# Altium integrated library TI Data Converters Analog to Digital Converter.IntLib: 2198 symbols (part 85 of 164)
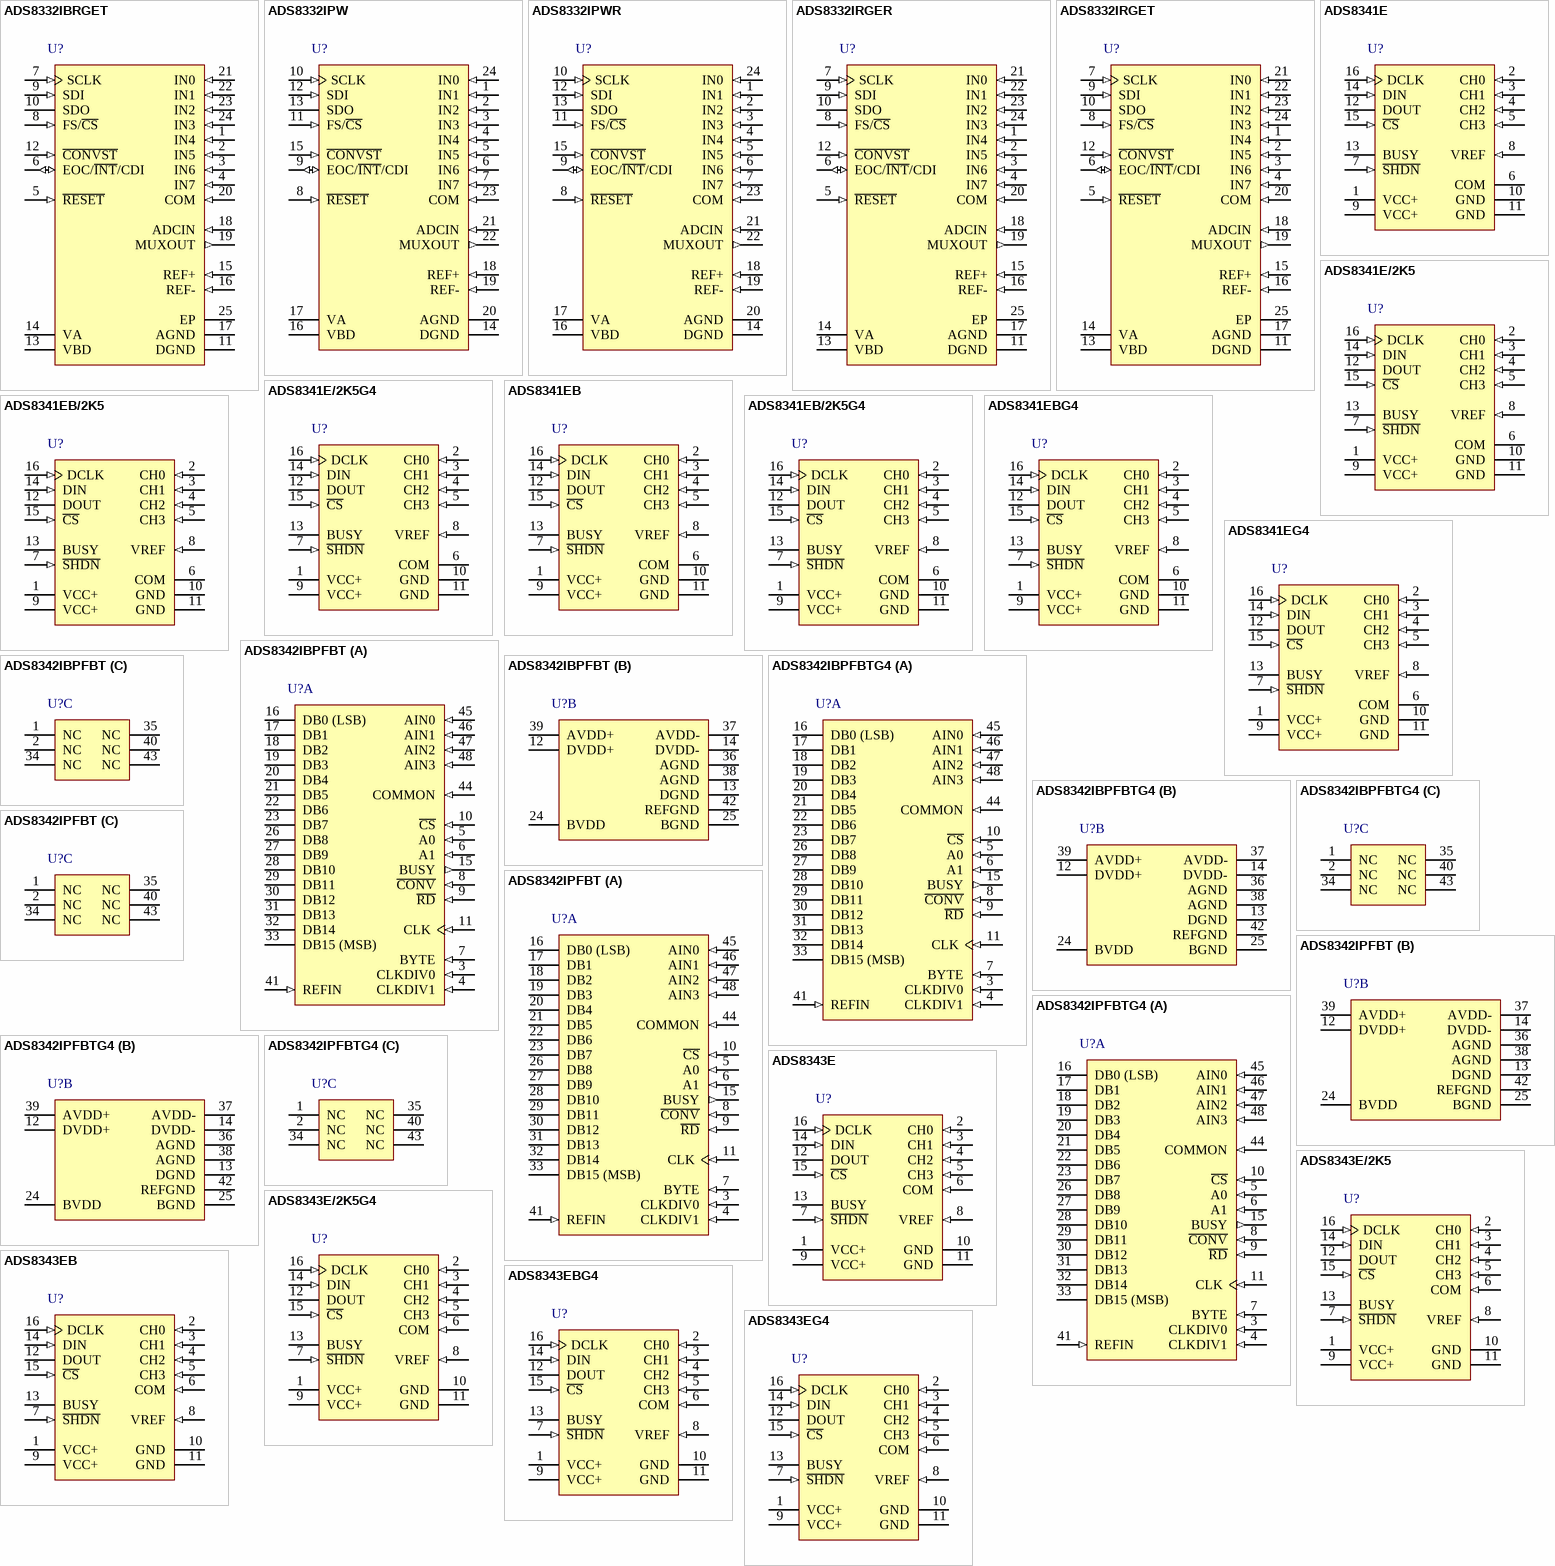
[diagram p210: symbols ADS8332IBRGET to ADS8343EG4]

## ADS8342IPFBT
designator U?
16-Bit 250 kSPS ADC Parallel Out, 4 True Bipolar Channels, -40 to 85 degC, 48-pin QFP (PFB48), Green (RoHS & no Sb/Br); Manufacturer: Texas Instruments; PartNumber: ADS8342IPFBT; # Input Channels: 4; Analog Voltage AV/DD(Max)(V): 5.25; Analog Voltage AV/DD(Min)(V): 4.75; Architecture: SAR; ENOB(Bits): 14; INL(Max)(+/-LSB): 6; Interface: Parallel CMOS; Resolution(Bits): 16; Sample Rate (max)(SPS): 250K; SFDR(dB): 92; SINAD(dB): 84.6; SNR(dB): 86; SubFamily: Precision ADC (<=10MSPS); DatasheetVersion: SBAS277; PackageVersion: 4073176/B, 10/1996; PackageReference: PFB48; PackageDescription: 48-Pin Plastic Flat Pack, Body 7 x 7 mm, Pitch 0.5 mm; Supplier 1: Digi-Key; Supplier Part Number 1: ADS7822PBG4-ND; Digital Supply(Max)(V): 5.25; Digital Supply(Min)(V): 4.75; Eco-Plan: Green (RoHS & no Sb/Br); Mounting Technology: Surface Mount; Code_JEDEC: MS-026; ComponentLink1Description: Manufacturer URL; ComponentLink1URL: http://www.ti.com/; ComponentLink2Description: Datasheet; ComponentLink2URL: http://www.ti.com/general/docs/lit/getliterature.tsp?genericPartNumber=ADS8342&fileType=pdf; ComponentLink3Description: Package Specification; ComponentLink3URL: http://www.ti.com/lit/ml/mtqf019a/mtqf019a.pdf
footprint TI-PFB48_N (QFP, 48-Leads, Body 7x7mm, Pitch 0.5mm, IPC Medium Density)
footprint TI-PFB48_L (QFP, 48-Leads, Body 7x7mm, Pitch 0.5mm, IPC High Density)
footprint TI-PFB48_M (QFP, 48-Leads, Body 7x7mm, Pitch 0.5mm, IPC Low Density)
part A pins: 3 CLKDIV0 (in) "Select clock divider ratio. Internally divides external clock (pin 11) by 1, 2, 4, or 8.", 4 CLKDIV1 (in) "Select clock divider ratio. Internally divides external clock (pin 11) by 1, 2, 4, or 8.", 5 A0 (in) "Address decode input, select analog input.", 6 A1 (in) "Address decode input, select analog input.", 7 BYTE (in) "Active high bus width is 8 bits. When BYTE is low, the bus width is 16 bits.", 8 ~{CONV} (in) "Convert start. When C\O\N\V\ switches from high to low, the device switches from sample mode to hold mode, independent of the external clock status. The address for the next conversion will be latched on low-to-high (See Datasheet)", 9 ~{RD} (in) "Active low read signal", 10 ~{CS} (in) "Active low chip select signal", 11 CLK (in) "System clock", 15 BUSY (out) "BUSY goes high during a conversion and returns low at the end when data is available for reading.", 16 DB0 (LSB) (hiz) "Output 3-state data bus. DB15 (MSB) to DB0 (LSB). Data lines are 3-state during conversion. R\D\ should be asserted only when the part is not converting.", 17 DB1 (hiz) "Output 3-state data bus. DB15 (MSB) to DB0 (LSB). Data lines are 3-state during conversion. R\D\ should be asserted only when the part is not converting.", 18 DB2 (hiz) "Output 3-state data bus. DB15 (MSB) to DB0 (LSB). Data lines are 3-state during conversion. R\D\ should be asserted only when the part is not converting.", 19 DB3 (hiz) "Output 3-state data bus. DB15 (MSB) to DB0 (LSB). Data lines are 3-state during conversion. R\D\ should be asserted only when the part is not converting.", 20 DB4 (hiz) "Output 3-state data bus. DB15 (MSB) to DB0 (LSB). Data lines are 3-state during conversion. R\D\ should be asserted only when the part is not converting.", 21 DB5 (hiz) "Output 3-state data bus. DB15 (MSB) to DB0 (LSB). Data lines are 3-state during conversion. R\D\ should be asserted only when the part is not converting.", 22 DB6 (hiz) "Output 3-state data bus. DB15 (MSB) to DB0 (LSB). Data lines are 3-state during conversion. R\D\ should be asserted only when the part is not converting.", 23 DB7 (hiz) "Output 3-state data bus. DB15 (MSB) to DB0 (LSB). Data lines are 3-state during conversion. R\D\ should be asserted only when the part is not converting.", 26 DB8 (hiz) "Output 3-state data bus. DB15 (MSB) to DB0 (LSB). Data lines are 3-state during conversion. R\D\ should be asserted only when the part is not converting.", 27 DB9 (hiz) "Output 3-state data bus. DB15 (MSB) to DB0 (LSB). Data lines are 3-state during conversion. R\D\ should be asserted only when the part is not converting.", 28 DB10 (hiz) "Output 3-state data bus. DB15 (MSB) to DB0 (LSB). Data lines are 3-state during conversion. R\D\ should be asserted only when the part is not converting.", 29 DB11 (hiz) "Output 3-state data bus. DB15 (MSB) to DB0 (LSB). Data lines are 3-state during conversion. R\D\ should be asserted only when the part is not converting.", 30 DB12 (hiz) "Output 3-state data bus. DB15 (MSB) to DB0 (LSB). Data lines are 3-state during conversion. R\D\ should be asserted only when the part is not converting.", 31 DB13 (hiz) "Output 3-state data bus. DB15 (MSB) to DB0 (LSB). Data lines are 3-state during conversion. R\D\ should be asserted only when the part is not converting.", 32 DB14 (hiz) "Output 3-state data bus. DB15 (MSB) to DB0 (LSB). Data lines are 3-state during conversion. R\D\ should be asserted only when the part is not converting.", 33 DB15 (MSB) (hiz) "Output 3-state data bus. DB15 (MSB) to DB0 (LSB). Data lines are 3-state during conversion. R\D\ should be asserted only when the part is not converting.", 41 REFIN (in) "Reference voltage input pin for external reference voltage. Decouple to reference ground with a 0.1uF ceramic capacitor", 44 COMMON (in) "Analog input common signal", 45 AIN0 (in) "Analog input 0", 46 AIN1 (in) "Analog input 1", 47 AIN2 (in) "Analog input 2", 48 AIN3 (in) "Analog input 3"
part B pins: 12 DVDD+ (power) "Positive digital power supply +5VDC. Decouple to digital ground with a 0.1uF ceramic capacitor and a 4.7uF tantalum capacitor. Referenced to the same power supply as +AVDD (pin 39).", 13 DGND (power) "Digital ground. Connected directly to analog ground (pins 36 and 38) and digital I/O ground (pin 25).", 14 DVDD- (power) "Negative digital power supply -5VDC. Decouple to digital ground with a 0.1uF ceramic capacitor and a 4.7uF tantalum capacitor. Referenced to the same power supply as -AVDD (pin 37).", 24 BVDD (power) "Digital I/O power supply in the range 2.7V to DVDD. Decouple to digital I/O ground with a 0.1uF ceramic capacitor and a 4.7uF tantalum capacitor.", 25 BGND (power) "Digital I/O ground. Connected directly to analog ground (pins 36 and 38) and digital ground (pin 13).", 36 AGND (power) "Analog ground. Connected directly to digital ground (pin 13) and digital I/O ground (pin 25).", 37 AVDD- (power) "Negative analog power supply -5VDC. Decouple to analog ground with a 0.1uF ceramic capacitor and a 4.7uF tantalum capacitor. Referenced to the same power supply as -DVDD (pin 14).", 38 AGND (power) "Analog ground. Connected directly to digital ground (pin 13) and digital I/O ground (pin 25).", 39 AVDD+ (power) "Positive analog power supply, +5VDC. Decouple to analog ground with a 0.1uF ceramic capacitor and a 4.7uF tantalum capacitor. Referenced to the same power supply as +DVDD (pin 12).", 42 REFGND (power) "Reference ground. Connected to the ground of the external reference voltage."
part C pins: 1 NC "no connection. These pins should be left unconnected.", 2 NC "no connection. These pins should be left unconnected.", 34 NC "no connection. These pins should be left unconnected.", 35 NC "no connection. These pins should be left unconnected.", 40 NC "no connection. These pins should be left unconnected.", 43 NC "no connection. These pins should be left unconnected."

## ADS8342IPFBTG4
designator U?
16-Bit 250 kSPS ADC Parallel Out, 4 True Bipolar Channels, -40 to 85 degC, 48-pin QFP (PFB48), Green (RoHS & no Sb/Br); Manufacturer: Texas Instruments; PartNumber: ADS8342IPFBTG4; # Input Channels: 4; Analog Voltage AV/DD(Max)(V): 5.25; Analog Voltage AV/DD(Min)(V): 4.75; Architecture: SAR; ENOB(Bits): 14; INL(Max)(+/-LSB): 6; Interface: Parallel CMOS; Resolution(Bits): 16; Sample Rate (max)(SPS): 250K; SFDR(dB): 92; SINAD(dB): 84.6; SNR(dB): 86; SubFamily: Precision ADC (<=10MSPS); DatasheetVersion: SBAS277; PackageVersion: 4073176/B, 10/1996; PackageReference: PFB48; PackageDescription: 48-Pin Plastic Flat Pack, Body 7 x 7 mm, Pitch 0.5 mm; Supplier 1: Digi-Key; Supplier Part Number 1: 296-32823-5-ND; Digital Supply(Max)(V): 5.25; Digital Supply(Min)(V): 4.75; Eco-Plan: Green (RoHS & no Sb/Br); Mounting Technology: Surface Mount; Code_JEDEC: MS-026; ComponentLink1Description: Manufacturer URL; ComponentLink1URL: http://www.ti.com/; ComponentLink2Description: Datasheet; ComponentLink2URL: http://www.ti.com/general/docs/lit/getliterature.tsp?genericPartNumber=ADS8342&fileType=pdf; ComponentLink3Description: Package Specification; ComponentLink3URL: http://www.ti.com/lit/ml/mtqf019a/mtqf019a.pdf
footprint TI-PFB48_N (QFP, 48-Leads, Body 7x7mm, Pitch 0.5mm, IPC Medium Density)
footprint TI-PFB48_L (QFP, 48-Leads, Body 7x7mm, Pitch 0.5mm, IPC High Density)
footprint TI-PFB48_M (QFP, 48-Leads, Body 7x7mm, Pitch 0.5mm, IPC Low Density)
part A pins: 3 CLKDIV0 (in) "Select clock divider ratio. Internally divides external clock (pin 11) by 1, 2, 4, or 8.", 4 CLKDIV1 (in) "Select clock divider ratio. Internally divides external clock (pin 11) by 1, 2, 4, or 8.", 5 A0 (in) "Address decode input, select analog input.", 6 A1 (in) "Address decode input, select analog input.", 7 BYTE (in) "Active high bus width is 8 bits. When BYTE is low, the bus width is 16 bits.", 8 ~{CONV} (in) "Convert start. When C\O\N\V\ switches from high to low, the device switches from sample mode to hold mode, independent of the external clock status. The address for the next conversion will be latched on low-to-high (See Datasheet)", 9 ~{RD} (in) "Active low read signal", 10 ~{CS} (in) "Active low chip select signal", 11 CLK (in) "System clock", 15 BUSY (out) "BUSY goes high during a conversion and returns low at the end when data is available for reading.", 16 DB0 (LSB) (hiz) "Output 3-state data bus. DB15 (MSB) to DB0 (LSB). Data lines are 3-state during conversion. R\D\ should be asserted only when the part is not converting.", 17 DB1 (hiz) "Output 3-state data bus. DB15 (MSB) to DB0 (LSB). Data lines are 3-state during conversion. R\D\ should be asserted only when the part is not converting.", 18 DB2 (hiz) "Output 3-state data bus. DB15 (MSB) to DB0 (LSB). Data lines are 3-state during conversion. R\D\ should be asserted only when the part is not converting.", 19 DB3 (hiz) "Output 3-state data bus. DB15 (MSB) to DB0 (LSB). Data lines are 3-state during conversion. R\D\ should be asserted only when the part is not converting.", 20 DB4 (hiz) "Output 3-state data bus. DB15 (MSB) to DB0 (LSB). Data lines are 3-state during conversion. R\D\ should be asserted only when the part is not converting.", 21 DB5 (hiz) "Output 3-state data bus. DB15 (MSB) to DB0 (LSB). Data lines are 3-state during conversion. R\D\ should be asserted only when the part is not converting.", 22 DB6 (hiz) "Output 3-state data bus. DB15 (MSB) to DB0 (LSB). Data lines are 3-state during conversion. R\D\ should be asserted only when the part is not converting.", 23 DB7 (hiz) "Output 3-state data bus. DB15 (MSB) to DB0 (LSB). Data lines are 3-state during conversion. R\D\ should be asserted only when the part is not converting.", 26 DB8 (hiz) "Output 3-state data bus. DB15 (MSB) to DB0 (LSB). Data lines are 3-state during conversion. R\D\ should be asserted only when the part is not converting.", 27 DB9 (hiz) "Output 3-state data bus. DB15 (MSB) to DB0 (LSB). Data lines are 3-state during conversion. R\D\ should be asserted only when the part is not converting.", 28 DB10 (hiz) "Output 3-state data bus. DB15 (MSB) to DB0 (LSB). Data lines are 3-state during conversion. R\D\ should be asserted only when the part is not converting.", 29 DB11 (hiz) "Output 3-state data bus. DB15 (MSB) to DB0 (LSB). Data lines are 3-state during conversion. R\D\ should be asserted only when the part is not converting.", 30 DB12 (hiz) "Output 3-state data bus. DB15 (MSB) to DB0 (LSB). Data lines are 3-state during conversion. R\D\ should be asserted only when the part is not converting.", 31 DB13 (hiz) "Output 3-state data bus. DB15 (MSB) to DB0 (LSB). Data lines are 3-state during conversion. R\D\ should be asserted only when the part is not converting.", 32 DB14 (hiz) "Output 3-state data bus. DB15 (MSB) to DB0 (LSB). Data lines are 3-state during conversion. R\D\ should be asserted only when the part is not converting.", 33 DB15 (MSB) (hiz) "Output 3-state data bus. DB15 (MSB) to DB0 (LSB). Data lines are 3-state during conversion. R\D\ should be asserted only when the part is not converting.", 41 REFIN (in) "Reference voltage input pin for external reference voltage. Decouple to reference ground with a 0.1uF ceramic capacitor", 44 COMMON (in) "Analog input common signal", 45 AIN0 (in) "Analog input 0", 46 AIN1 (in) "Analog input 1", 47 AIN2 (in) "Analog input 2", 48 AIN3 (in) "Analog input 3"
part B pins: 12 DVDD+ (power) "Positive digital power supply +5VDC. Decouple to digital ground with a 0.1uF ceramic capacitor and a 4.7uF tantalum capacitor. Referenced to the same power supply as +AVDD (pin 39).", 13 DGND (power) "Digital ground. Connected directly to analog ground (pins 36 and 38) and digital I/O ground (pin 25).", 14 DVDD- (power) "Negative digital power supply -5VDC. Decouple to digital ground with a 0.1uF ceramic capacitor and a 4.7uF tantalum capacitor. Referenced to the same power supply as -AVDD (pin 37).", 24 BVDD (power) "Digital I/O power supply in the range 2.7V to DVDD. Decouple to digital I/O ground with a 0.1uF ceramic capacitor and a 4.7uF tantalum capacitor.", 25 BGND (power) "Digital I/O ground. Connected directly to analog ground (pins 36 and 38) and digital ground (pin 13).", 36 AGND (power) "Analog ground. Connected directly to digital ground (pin 13) and digital I/O ground (pin 25).", 37 AVDD- (power) "Negative analog power supply -5VDC. Decouple to analog ground with a 0.1uF ceramic capacitor and a 4.7uF tantalum capacitor. Referenced to the same power supply as -DVDD (pin 14).", 38 AGND (power) "Analog ground. Connected directly to digital ground (pin 13) and digital I/O ground (pin 25).", 39 AVDD+ (power) "Positive analog power supply, +5VDC. Decouple to analog ground with a 0.1uF ceramic capacitor and a 4.7uF tantalum capacitor. Referenced to the same power supply as +DVDD (pin 12).", 42 REFGND (power) "Reference ground. Connected to the ground of the external reference voltage."
part C pins: 1 NC "no connection. These pins should be left unconnected.", 2 NC "no connection. These pins should be left unconnected.", 34 NC "no connection. These pins should be left unconnected.", 35 NC "no connection. These pins should be left unconnected.", 40 NC "no connection. These pins should be left unconnected.", 43 NC "no connection. These pins should be left unconnected."

## ADS8343E
designator U?
16-Bit, 4-Channel Serial Output Sampling ADC, -40 to 85 degC, 16-pin SOP (DBQ16), Green (RoHS & no Sb/Br); Manufacturer: Texas Instruments; PartNumber: ADS8343E; # Input Channels: 4; Analog Voltage AV/DD(Max)(V): 5.25; Analog Voltage AV/DD(Min)(V): 2.7; Architecture: SAR; INL(Max)(+/-LSB): 8; Interface: Serial SPI; Resolution(Bits): 16; Sample Rate (max)(SPS): 100k; SFDR(dB): 97; SINAD(dB): 86; SubFamily: Precision ADC (<=10MSPS); DatasheetVersion: SBAS183C; PackageVersion: 4073301-2/H, 10/2008; PackageReference: DBQ16; PackageDescription: 16-Pin Plastic Small Outline, Body 3.9 x 4.9 mm, Pitch 0.635 mm; Supplier 1: Digi-Key; Supplier Part Number 1: ADS7822PCG4-ND; Digital Supply(Max)(V): 5.25; Digital Supply(Min)(V): 2.7; Eco-Plan: Green (RoHS & no Sb/Br); Mounting Technology: Surface Mount; Code_JEDEC: MO-137; ComponentLink1Description: Manufacturer URL; ComponentLink1URL: http://www.ti.com/; ComponentLink2Description: Datasheet; ComponentLink2URL: http://www.ti.com/general/docs/lit/getliterature.tsp?genericPartNumber=ADS8343&fileType=pdf; ComponentLink3Description: Package Specification; ComponentLink3URL: http://www.ti.com/litv/pdf/msoi004g
footprint TI-DBQ16_N (SOP, 16-Leads, Body 4.9x3.9mm, Pitch 0.635mm, IPC Medium Density)
footprint TI-DBQ16_L (SOP, 16-Leads, Body 4.9x3.9mm, Pitch 0.635mm, IPC High Density)
footprint TI-DBQ16_M (SOP, 16-Leads, Body 4.9x3.9mm, Pitch 0.635mm, IPC Low Density)
pins: 1 VCC+ (power) "Power Supply, 2.7V to 5V", 2 CH0 (in) "Analog Input Channel 0", 3 CH1 (in) "Analog Input Channel 1", 4 CH2 (in) "Analog Input Channel 2", 5 CH3 (in) "Analog Input Channel 3", 6 COM (in) "Common reference for analog inputs. This pin is typically connected to VREF.", 7 ~{SHDN} (in) "Shutdown. When LOW, the device enters a very low power shutdown mode.", 8 VREF (in) "Voltage Reference Input. See Electrical Characteristic Table for ranges.", 9 VCC+ (power) "Power Supply, 2.7V to 5V", 10 GND (power) "Ground", 11 GND (power) "Ground", 12 DOUT (hiz) "Serial Data Output. Data is shifted on the falling edge of DCLK. This output is high impedance when C\S\ is HIGH.", 13 BUSY (hiz) "Busy Output. This output is high impedance when C\S\ is HIGH.", 14 DIN (in) "Serial Data Input. If C\S\ is LOW, data is latched on rising edge of DCLK.", 15 ~{CS} (in) "Chip Select Input. Controls conversion timing and enables the serial input/output register.", 16 DCLK (in) "External Clock Input. This clock runs the SAR conversion process and synchronizes serial data I/O. Maximum input clock frequency equals 2.4MHz to achieve 100kHz sampling rate."

## ADS8343E/2K5
designator U?
16-Bit, 4-Channel Serial Output Sampling ADC, -40 to 85 degC, 16-pin SOP (DBQ16), Green (RoHS & no Sb/Br); Manufacturer: Texas Instruments; PartNumber: ADS8343E/2K5; # Input Channels: 4; Analog Voltage AV/DD(Max)(V): 5.25; Analog Voltage AV/DD(Min)(V): 2.7; Architecture: SAR; INL(Max)(+/-LSB): 8; Interface: Serial SPI; Resolution(Bits): 16; Sample Rate (max)(SPS): 100k; SFDR(dB): 97; SINAD(dB): 86; SubFamily: Precision ADC (<=10MSPS); DatasheetVersion: SBAS183C; PackageVersion: 4073301-2/H, 10/2008; PackageReference: DBQ16; PackageDescription: 16-Pin Plastic Small Outline, Body 3.9 x 4.9 mm, Pitch 0.635 mm; Supplier 1: Digi-Key; Supplier Part Number 1: ADS7822PG4-ND; Digital Supply(Max)(V): 5.25; Digital Supply(Min)(V): 2.7; Eco-Plan: Green (RoHS & no Sb/Br); Mounting Technology: Surface Mount; Code_JEDEC: MO-137; ComponentLink1Description: Manufacturer URL; ComponentLink1URL: http://www.ti.com/; ComponentLink2Description: Datasheet; ComponentLink2URL: http://www.ti.com/general/docs/lit/getliterature.tsp?genericPartNumber=ADS8343&fileType=pdf; ComponentLink3Description: Package Specification; ComponentLink3URL: http://www.ti.com/litv/pdf/msoi004g
footprint TI-DBQ16_N (SOP, 16-Leads, Body 4.9x3.9mm, Pitch 0.635mm, IPC Medium Density)
footprint TI-DBQ16_L (SOP, 16-Leads, Body 4.9x3.9mm, Pitch 0.635mm, IPC High Density)
footprint TI-DBQ16_M (SOP, 16-Leads, Body 4.9x3.9mm, Pitch 0.635mm, IPC Low Density)
pins: 1 VCC+ (power) "Power Supply, 2.7V to 5V", 2 CH0 (in) "Analog Input Channel 0", 3 CH1 (in) "Analog Input Channel 1", 4 CH2 (in) "Analog Input Channel 2", 5 CH3 (in) "Analog Input Channel 3", 6 COM (in) "Common reference for analog inputs. This pin is typically connected to VREF.", 7 ~{SHDN} (in) "Shutdown. When LOW, the device enters a very low power shutdown mode.", 8 VREF (in) "Voltage Reference Input. See Electrical Characteristic Table for ranges.", 9 VCC+ (power) "Power Supply, 2.7V to 5V", 10 GND (power) "Ground", 11 GND (power) "Ground", 12 DOUT (hiz) "Serial Data Output. Data is shifted on the falling edge of DCLK. This output is high impedance when C\S\ is HIGH.", 13 BUSY (hiz) "Busy Output. This output is high impedance when C\S\ is HIGH.", 14 DIN (in) "Serial Data Input. If C\S\ is LOW, data is latched on rising edge of DCLK.", 15 ~{CS} (in) "Chip Select Input. Controls conversion timing and enables the serial input/output register.", 16 DCLK (in) "External Clock Input. This clock runs the SAR conversion process and synchronizes serial data I/O. Maximum input clock frequency equals 2.4MHz to achieve 100kHz sampling rate."

## ADS8343E/2K5G4
designator U?
16-Bit, 4-Channel Serial Output Sampling ADC, -40 to 85 degC, 16-pin SOP (DBQ16), Green (RoHS & no Sb/Br); Manufacturer: Texas Instruments; PartNumber: ADS8343E/2K5G4; # Input Channels: 4; Analog Voltage AV/DD(Max)(V): 5.25; Analog Voltage AV/DD(Min)(V): 2.7; Architecture: SAR; INL(Max)(+/-LSB): 8; Interface: Serial SPI; Resolution(Bits): 16; Sample Rate (max)(SPS): 100k; SFDR(dB): 97; SINAD(dB): 86; SubFamily: Precision ADC (<=10MSPS); DatasheetVersion: SBAS183C; PackageVersion: 4073301-2/H, 10/2008; PackageReference: DBQ16; PackageDescription: 16-Pin Plastic Small Outline, Body 3.9 x 4.9 mm, Pitch 0.635 mm; Supplier 1: Digi-Key; Supplier Part Number 1: ADS7822U-ND; Digital Supply(Max)(V): 5.25; Digital Supply(Min)(V): 2.7; Eco-Plan: Green (RoHS & no Sb/Br); Mounting Technology: Surface Mount; Code_JEDEC: MO-137; ComponentLink1Description: Manufacturer URL; ComponentLink1URL: http://www.ti.com/; ComponentLink2Description: Datasheet; ComponentLink2URL: http://www.ti.com/general/docs/lit/getliterature.tsp?genericPartNumber=ADS8343&fileType=pdf; ComponentLink3Description: Package Specification; ComponentLink3URL: http://www.ti.com/litv/pdf/msoi004g
footprint TI-DBQ16_N (SOP, 16-Leads, Body 4.9x3.9mm, Pitch 0.635mm, IPC Medium Density)
footprint TI-DBQ16_L (SOP, 16-Leads, Body 4.9x3.9mm, Pitch 0.635mm, IPC High Density)
footprint TI-DBQ16_M (SOP, 16-Leads, Body 4.9x3.9mm, Pitch 0.635mm, IPC Low Density)
pins: 1 VCC+ (power) "Power Supply, 2.7V to 5V", 2 CH0 (in) "Analog Input Channel 0", 3 CH1 (in) "Analog Input Channel 1", 4 CH2 (in) "Analog Input Channel 2", 5 CH3 (in) "Analog Input Channel 3", 6 COM (in) "Common reference for analog inputs. This pin is typically connected to VREF.", 7 ~{SHDN} (in) "Shutdown. When LOW, the device enters a very low power shutdown mode.", 8 VREF (in) "Voltage Reference Input. See Electrical Characteristic Table for ranges.", 9 VCC+ (power) "Power Supply, 2.7V to 5V", 10 GND (power) "Ground", 11 GND (power) "Ground", 12 DOUT (hiz) "Serial Data Output. Data is shifted on the falling edge of DCLK. This output is high impedance when C\S\ is HIGH.", 13 BUSY (hiz) "Busy Output. This output is high impedance when C\S\ is HIGH.", 14 DIN (in) "Serial Data Input. If C\S\ is LOW, data is latched on rising edge of DCLK.", 15 ~{CS} (in) "Chip Select Input. Controls conversion timing and enables the serial input/output register.", 16 DCLK (in) "External Clock Input. This clock runs the SAR conversion process and synchronizes serial data I/O. Maximum input clock frequency equals 2.4MHz to achieve 100kHz sampling rate."

## ADS8343EB
designator U?
16-Bit, 4-Channel Serial Output Sampling ADC, -40 to 85 degC, 16-pin SOP (DBQ16), Green (RoHS & no Sb/Br); Manufacturer: Texas Instruments; PartNumber: ADS8343EB; # Input Channels: 4; Analog Voltage AV/DD(Max)(V): 5.25; Analog Voltage AV/DD(Min)(V): 2.7; Architecture: SAR; INL(Max)(+/-LSB): 6; Interface: Serial SPI; Resolution(Bits): 16; Sample Rate (max)(SPS): 100k; SFDR(dB): 97; SINAD(dB): 86; SubFamily: Precision ADC (<=10MSPS); DatasheetVersion: SBAS183C; PackageVersion: 4073301-2/H, 10/2008; PackageReference: DBQ16; PackageDescription: 16-Pin Plastic Small Outline, Body 3.9 x 4.9 mm, Pitch 0.635 mm; Supplier 1: Digi-Key; Supplier Part Number 1: ADS7822U/2K5-ND; Digital Supply(Max)(V): 5.25; Digital Supply(Min)(V): 2.7; Eco-Plan: Green (RoHS & no Sb/Br); Mounting Technology: Surface Mount; Code_JEDEC: MO-137; ComponentLink1Description: Manufacturer URL; ComponentLink1URL: http://www.ti.com/; ComponentLink2Description: Datasheet; ComponentLink2URL: http://www.ti.com/general/docs/lit/getliterature.tsp?genericPartNumber=ADS8343&fileType=pdf; ComponentLink3Description: Package Specification; ComponentLink3URL: http://www.ti.com/litv/pdf/msoi004g
footprint TI-DBQ16_N (SOP, 16-Leads, Body 4.9x3.9mm, Pitch 0.635mm, IPC Medium Density)
footprint TI-DBQ16_L (SOP, 16-Leads, Body 4.9x3.9mm, Pitch 0.635mm, IPC High Density)
footprint TI-DBQ16_M (SOP, 16-Leads, Body 4.9x3.9mm, Pitch 0.635mm, IPC Low Density)
pins: 1 VCC+ (power) "Power Supply, 2.7V to 5V", 2 CH0 (in) "Analog Input Channel 0", 3 CH1 (in) "Analog Input Channel 1", 4 CH2 (in) "Analog Input Channel 2", 5 CH3 (in) "Analog Input Channel 3", 6 COM (in) "Common reference for analog inputs. This pin is typically connected to VREF.", 7 ~{SHDN} (in) "Shutdown. When LOW, the device enters a very low power shutdown mode.", 8 VREF (in) "Voltage Reference Input. See Electrical Characteristic Table for ranges.", 9 VCC+ (power) "Power Supply, 2.7V to 5V", 10 GND (power) "Ground", 11 GND (power) "Ground", 12 DOUT (hiz) "Serial Data Output. Data is shifted on the falling edge of DCLK. This output is high impedance when C\S\ is HIGH.", 13 BUSY (hiz) "Busy Output. This output is high impedance when C\S\ is HIGH.", 14 DIN (in) "Serial Data Input. If C\S\ is LOW, data is latched on rising edge of DCLK.", 15 ~{CS} (in) "Chip Select Input. Controls conversion timing and enables the serial input/output register.", 16 DCLK (in) "External Clock Input. This clock runs the SAR conversion process and synchronizes serial data I/O. Maximum input clock frequency equals 2.4MHz to achieve 100kHz sampling rate."

## ADS8343EBG4
designator U?
16-Bit, 4-Channel Serial Output Sampling ADC, -40 to 85 degC, 16-pin SOP (DBQ16), Green (RoHS & no Sb/Br); Manufacturer: Texas Instruments; PartNumber: ADS8343EBG4; # Input Channels: 4; Analog Voltage AV/DD(Max)(V): 5.25; Analog Voltage AV/DD(Min)(V): 2.7; Architecture: SAR; INL(Max)(+/-LSB): 6; Interface: Serial SPI; Resolution(Bits): 16; Sample Rate (max)(SPS): 100k; SFDR(dB): 97; SINAD(dB): 86; SubFamily: Precision ADC (<=10MSPS); DatasheetVersion: SBAS183C; PackageVersion: 4073301-2/H, 10/2008; PackageReference: DBQ16; PackageDescription: 16-Pin Plastic Small Outline, Body 3.9 x 4.9 mm, Pitch 0.635 mm; Supplier 1: Digi-Key; Supplier Part Number 1: ADS7822U/2K5G4-ND; Digital Supply(Max)(V): 5.25; Digital Supply(Min)(V): 2.7; Eco-Plan: Green (RoHS & no Sb/Br); Mounting Technology: Surface Mount; Code_JEDEC: MO-137; ComponentLink1Description: Manufacturer URL; ComponentLink1URL: http://www.ti.com/; ComponentLink2Description: Datasheet; ComponentLink2URL: http://www.ti.com/general/docs/lit/getliterature.tsp?genericPartNumber=ADS8343&fileType=pdf; ComponentLink3Description: Package Specification; ComponentLink3URL: http://www.ti.com/litv/pdf/msoi004g
footprint TI-DBQ16_N (SOP, 16-Leads, Body 4.9x3.9mm, Pitch 0.635mm, IPC Medium Density)
footprint TI-DBQ16_L (SOP, 16-Leads, Body 4.9x3.9mm, Pitch 0.635mm, IPC High Density)
footprint TI-DBQ16_M (SOP, 16-Leads, Body 4.9x3.9mm, Pitch 0.635mm, IPC Low Density)
pins: 1 VCC+ (power) "Power Supply, 2.7V to 5V", 2 CH0 (in) "Analog Input Channel 0", 3 CH1 (in) "Analog Input Channel 1", 4 CH2 (in) "Analog Input Channel 2", 5 CH3 (in) "Analog Input Channel 3", 6 COM (in) "Common reference for analog inputs. This pin is typically connected to VREF.", 7 ~{SHDN} (in) "Shutdown. When LOW, the device enters a very low power shutdown mode.", 8 VREF (in) "Voltage Reference Input. See Electrical Characteristic Table for ranges.", 9 VCC+ (power) "Power Supply, 2.7V to 5V", 10 GND (power) "Ground", 11 GND (power) "Ground", 12 DOUT (hiz) "Serial Data Output. Data is shifted on the falling edge of DCLK. This output is high impedance when C\S\ is HIGH.", 13 BUSY (hiz) "Busy Output. This output is high impedance when C\S\ is HIGH.", 14 DIN (in) "Serial Data Input. If C\S\ is LOW, data is latched on rising edge of DCLK.", 15 ~{CS} (in) "Chip Select Input. Controls conversion timing and enables the serial input/output register.", 16 DCLK (in) "External Clock Input. This clock runs the SAR conversion process and synchronizes serial data I/O. Maximum input clock frequency equals 2.4MHz to achieve 100kHz sampling rate."

## ADS8343EG4
designator U?
16-Bit, 4-Channel Serial Output Sampling ADC, -40 to 85 degC, 16-pin SOP (DBQ16), Green (RoHS & no Sb/Br); Manufacturer: Texas Instruments; PartNumber: ADS8343EG4; # Input Channels: 4; Analog Voltage AV/DD(Max)(V): 5.25; Analog Voltage AV/DD(Min)(V): 2.7; Architecture: SAR; INL(Max)(+/-LSB): 6; Interface: Serial SPI; Resolution(Bits): 16; Sample Rate (max)(SPS): 100k; SFDR(dB): 97; SINAD(dB): 86; SubFamily: Precision ADC (<=10MSPS); DatasheetVersion: SBAS183C; PackageVersion: 4073301-2/H, 10/2008; PackageReference: DBQ16; PackageDescription: 16-Pin Plastic Small Outline, Body 3.9 x 4.9 mm, Pitch 0.635 mm; Supplier 1: Digi-Key; Supplier Part Number 1: ADS7822UB-ND; Digital Supply(Max)(V): 5.25; Digital Supply(Min)(V): 2.7; Eco-Plan: Green (RoHS & no Sb/Br); Mounting Technology: Surface Mount; Code_JEDEC: MO-137; ComponentLink1Description: Manufacturer URL; ComponentLink1URL: http://www.ti.com/; ComponentLink2Description: Datasheet; ComponentLink2URL: http://www.ti.com/general/docs/lit/getliterature.tsp?genericPartNumber=ADS8343&fileType=pdf; ComponentLink3Description: Package Specification; ComponentLink3URL: http://www.ti.com/litv/pdf/msoi004g
footprint TI-DBQ16_N (SOP, 16-Leads, Body 4.9x3.9mm, Pitch 0.635mm, IPC Medium Density)
footprint TI-DBQ16_L (SOP, 16-Leads, Body 4.9x3.9mm, Pitch 0.635mm, IPC High Density)
footprint TI-DBQ16_M (SOP, 16-Leads, Body 4.9x3.9mm, Pitch 0.635mm, IPC Low Density)
pins: 1 VCC+ (power) "Power Supply, 2.7V to 5V", 2 CH0 (in) "Analog Input Channel 0", 3 CH1 (in) "Analog Input Channel 1", 4 CH2 (in) "Analog Input Channel 2", 5 CH3 (in) "Analog Input Channel 3", 6 COM (in) "Common reference for analog inputs. This pin is typically connected to VREF.", 7 ~{SHDN} (in) "Shutdown. When LOW, the device enters a very low power shutdown mode.", 8 VREF (in) "Voltage Reference Input. See Electrical Characteristic Table for ranges.", 9 VCC+ (power) "Power Supply, 2.7V to 5V", 10 GND (power) "Ground", 11 GND (power) "Ground", 12 DOUT (hiz) "Serial Data Output. Data is shifted on the falling edge of DCLK. This output is high impedance when C\S\ is HIGH.", 13 BUSY (hiz) "Busy Output. This output is high impedance when C\S\ is HIGH.", 14 DIN (in) "Serial Data Input. If C\S\ is LOW, data is latched on rising edge of DCLK.", 15 ~{CS} (in) "Chip Select Input. Controls conversion timing and enables the serial input/output register.", 16 DCLK (in) "External Clock Input. This clock runs the SAR conversion process and synchronizes serial data I/O. Maximum input clock frequency equals 2.4MHz to achieve 100kHz sampling rate."

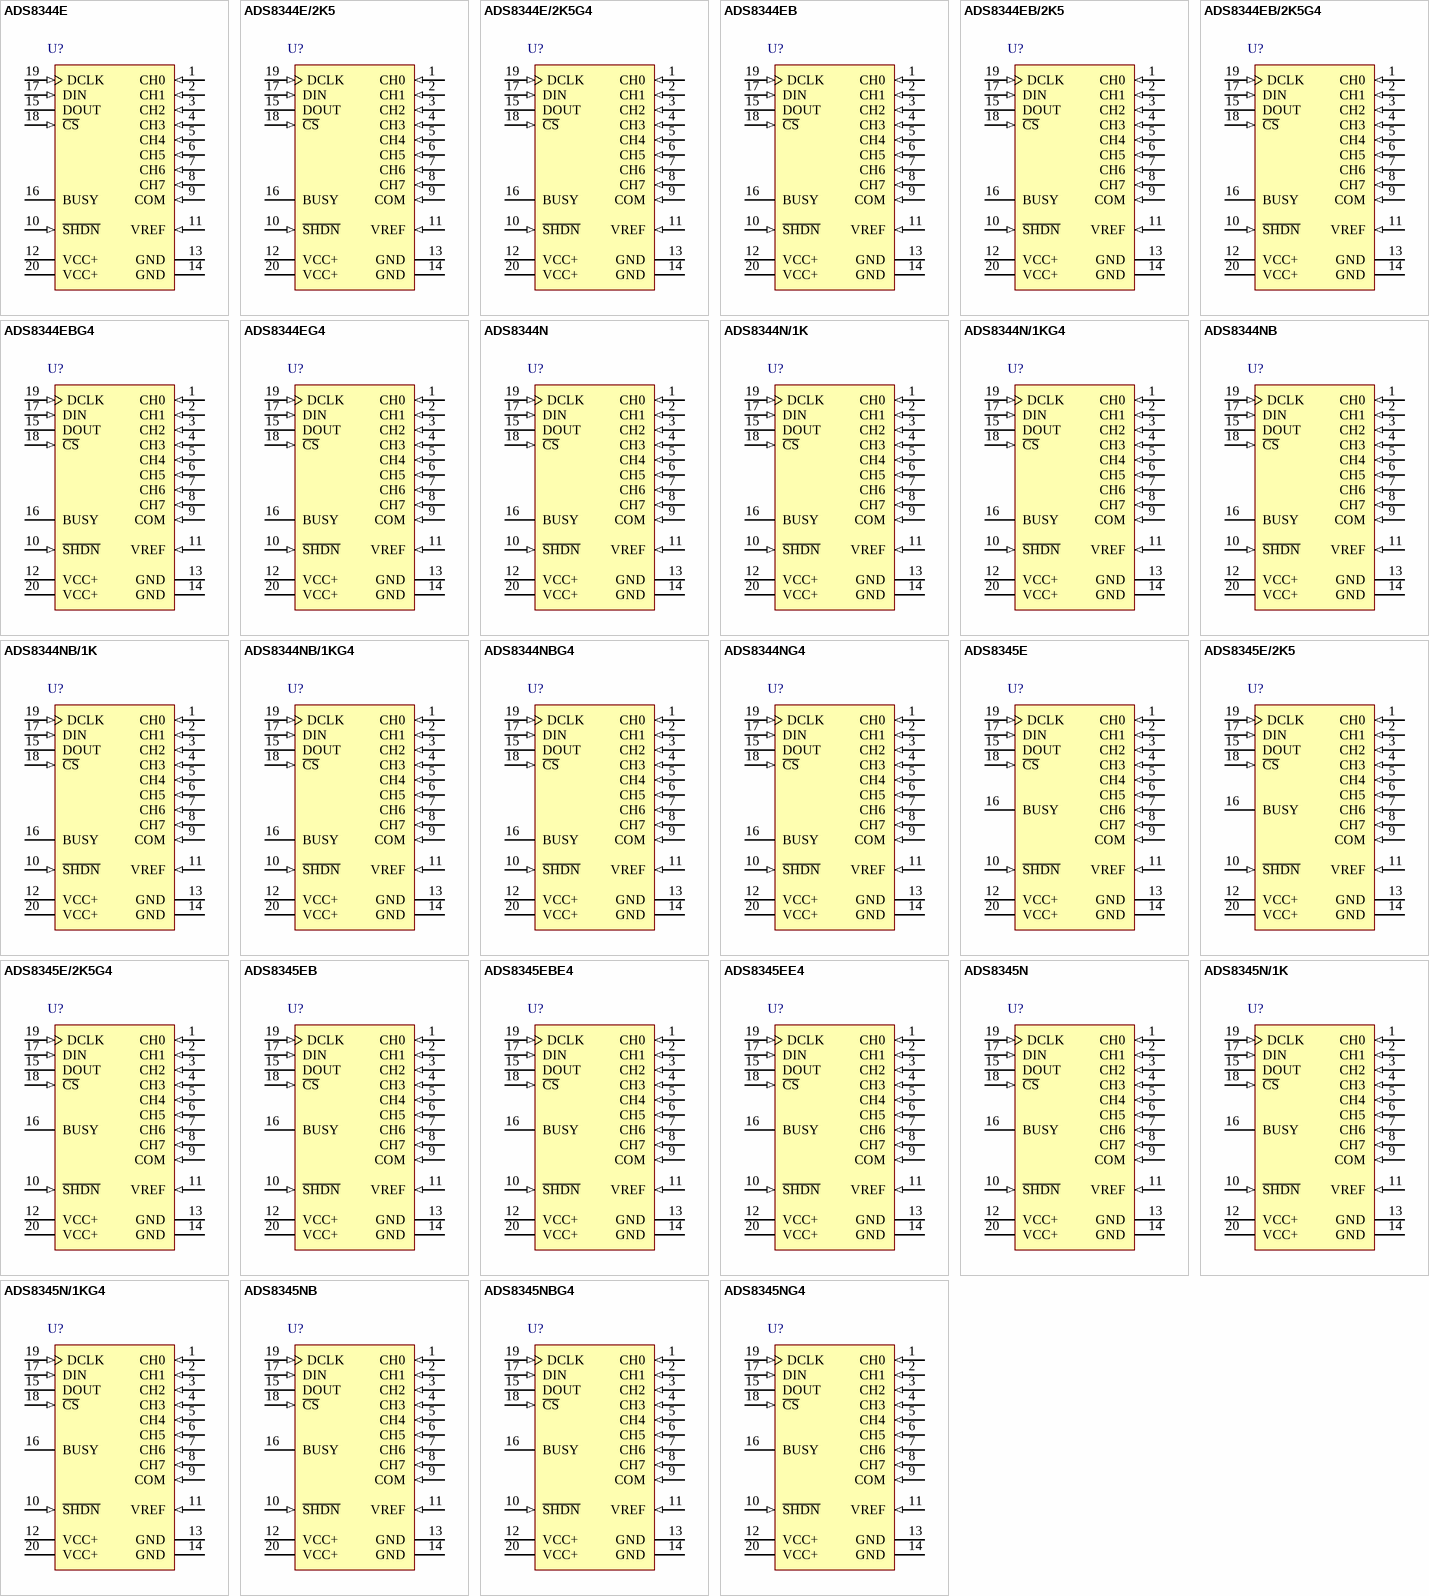
[diagram p76: symbols ADS8344E to ADS8345NG4]

## ADS8344E
designator U?
16-Bit, 8-Channel Serial Output Sampling ADC, -40 to 85 degC, 20-pin SOP (DBQ20), Green (RoHS & no Sb/Br); Manufacturer: Texas Instruments; PartNumber: ADS8344E; # Input Channels: 8; Analog Voltage AV/DD(Max)(V): 5.25; Analog Voltage AV/DD(Min)(V): 2.7; Architecture: SAR; INL(Max)(+/-LSB): 6; Interface: Serial SPI; Resolution(Bits): 16; Sample Rate (max)(SPS): 100k; SFDR(dB): 92; SINAD(dB): 86; SubFamily: Precision ADC (<=10MSPS); DatasheetVersion: SBAS139E; PackageVersion: 4073301-3/H, 10/2008; PackageReference: DBQ20; PackageDescription: 20-Pin Plastic Small Outline, Body 8.65 x 3.9 mm, Pitch 0.635 mm; Supplier 1: Digi-Key; Supplier Part Number 1: ADS7822UB/2K5-ND; Digital Supply(Max)(V): 5.25; Digital Supply(Min)(V): 2.7; Eco-Plan: Green (RoHS & no Sb/Br); Mounting Technology: Surface Mount; Code_JEDEC: MO-137; ComponentLink1Description: Manufacturer URL; ComponentLink1URL: http://www.ti.com/; ComponentLink2Description: Datasheet; ComponentLink2URL: http://www.ti.com/general/docs/lit/getliterature.tsp?genericPartNumber=ADS8344&fileType=pdf; ComponentLink3Description: Package Specification; ComponentLink3URL: http://www.ti.com/litv/pdf/mpds210a
footprint TI-DBQ20_N (SOP, 20-Leads, Body 8.65x3.9mm, Pitch 0.635mm, IPC Medium Density)
footprint TI-DBQ20_L (SOP, 20-Leads, Body 8.65x3.9mm, Pitch 0.635mm, IPC High Density)
footprint TI-DBQ20_M (SOP, 20-Leads, Body 8.65x3.9mm, Pitch 0.635mm, IPC Low Density)
pins: 1 CH0 (in) "Analog Input Channel 0", 2 CH1 (in) "Analog Input Channel 1", 3 CH2 (in) "Analog Input Channel 2", 4 CH3 (in) "Analog Input Channel 3", 5 CH4 (in) "Analog Input Channel 4", 6 CH5 (in) "Analog Input Channel 5", 7 CH6 (in) "Analog Input Channel 6", 8 CH7 (in) "Analog Input Channel 7", 9 COM (in) "Ground reference for analog inputs. Sets zero code voltage in single-ended mode. Connect this pin to ground or ground reference point.", 10 ~{SHDN} (in) "Shutdown. When LOW, the device enters a very low-power shutdown mode.", 11 VREF (in) "Voltage Reference Input. See Electrical Characteristics Table for ranges.", 12 VCC+ (power) "Power Supply, 2.7V to 5V", 13 GND (power) "Ground", 14 GND (power) "Ground", 15 DOUT (hiz) "Serial Data Output. Data is shifted on the falling edge of DCLK. This output is high impedance when C\S\ is HIGH.", 16 BUSY (hiz) "Busy Output. Busy goes LOW when the DIN control bits are being read and also when the device is converting. The Output is high impedance when C\S\ is HIGH.", 17 DIN (in) "Serial Data Input. If C\S\ is LOW, data is latched on rising edge of DCLK.", 18 ~{CS} (in) "Chip Select Input. Active LOW. Data will not be clocked into DIN unless C\S\ is LOW. When C\S\ is HIGH, DOUT is high impedance.", 19 DCLK (in) "External Clock Input. The clock speed determines the conversion rate by the equation fDCLK = 24 • fSAMPLE.", 20 VCC+ (power) "Power Supply"

## ADS8344E/2K5
designator U?
16-Bit, 8-Channel Serial Output Sampling ADC, -40 to 85 degC, 20-pin SOP (DBQ20), Green (RoHS & no Sb/Br); Manufacturer: Texas Instruments; PartNumber: ADS8344E/2K5; # Input Channels: 8; Analog Voltage AV/DD(Max)(V): 5.25; Analog Voltage AV/DD(Min)(V): 2.7; Architecture: SAR; INL(Max)(+/-LSB): 6; Interface: Serial SPI; Resolution(Bits): 16; Sample Rate (max)(SPS): 100k; SFDR(dB): 92; SINAD(dB): 86; SubFamily: Precision ADC (<=10MSPS); DatasheetVersion: SBAS139E; PackageVersion: 4073301-3/H, 10/2008; PackageReference: DBQ20; PackageDescription: 20-Pin Plastic Small Outline, Body 8.65 x 3.9 mm, Pitch 0.635 mm; Supplier 1: Digi-Key; Supplier Part Number 1: ADS7822UB/2K5G4-ND; Digital Supply(Max)(V): 5.25; Digital Supply(Min)(V): 2.7; Eco-Plan: Green (RoHS & no Sb/Br); Mounting Technology: Surface Mount; Code_JEDEC: MO-137; ComponentLink1Description: Manufacturer URL; ComponentLink1URL: http://www.ti.com/; ComponentLink2Description: Datasheet; ComponentLink2URL: http://www.ti.com/general/docs/lit/getliterature.tsp?genericPartNumber=ADS8344&fileType=pdf; ComponentLink3Description: Package Specification; ComponentLink3URL: http://www.ti.com/litv/pdf/mpds210a
footprint TI-DBQ20_N (SOP, 20-Leads, Body 8.65x3.9mm, Pitch 0.635mm, IPC Medium Density)
footprint TI-DBQ20_L (SOP, 20-Leads, Body 8.65x3.9mm, Pitch 0.635mm, IPC High Density)
footprint TI-DBQ20_M (SOP, 20-Leads, Body 8.65x3.9mm, Pitch 0.635mm, IPC Low Density)
pins: 1 CH0 (in) "Analog Input Channel 0", 2 CH1 (in) "Analog Input Channel 1", 3 CH2 (in) "Analog Input Channel 2", 4 CH3 (in) "Analog Input Channel 3", 5 CH4 (in) "Analog Input Channel 4", 6 CH5 (in) "Analog Input Channel 5", 7 CH6 (in) "Analog Input Channel 6", 8 CH7 (in) "Analog Input Channel 7", 9 COM (in) "Ground reference for analog inputs. Sets zero code voltage in single-ended mode. Connect this pin to ground or ground reference point.", 10 ~{SHDN} (in) "Shutdown. When LOW, the device enters a very low-power shutdown mode.", 11 VREF (in) "Voltage Reference Input. See Electrical Characteristics Table for ranges.", 12 VCC+ (power) "Power Supply, 2.7V to 5V", 13 GND (power) "Ground", 14 GND (power) "Ground", 15 DOUT (hiz) "Serial Data Output. Data is shifted on the falling edge of DCLK. This output is high impedance when C\S\ is HIGH.", 16 BUSY (hiz) "Busy Output. Busy goes LOW when the DIN control bits are being read and also when the device is converting. The Output is high impedance when C\S\ is HIGH.", 17 DIN (in) "Serial Data Input. If C\S\ is LOW, data is latched on rising edge of DCLK.", 18 ~{CS} (in) "Chip Select Input. Active LOW. Data will not be clocked into DIN unless C\S\ is LOW. When C\S\ is HIGH, DOUT is high impedance.", 19 DCLK (in) "External Clock Input. The clock speed determines the conversion rate by the equation fDCLK = 24 • fSAMPLE.", 20 VCC+ (power) "Power Supply"

## ADS8344E/2K5G4
designator U?
16-Bit, 8-Channel Serial Output Sampling ADC, -40 to 85 degC, 20-pin SOP (DBQ20), Green (RoHS & no Sb/Br); Manufacturer: Texas Instruments; PartNumber: ADS8344E/2K5G4; # Input Channels: 8; Analog Voltage AV/DD(Max)(V): 5.25; Analog Voltage AV/DD(Min)(V): 2.7; Architecture: SAR; INL(Max)(+/-LSB): 6; Interface: Serial SPI; Resolution(Bits): 16; Sample Rate (max)(SPS): 100k; SFDR(dB): 92; SINAD(dB): 86; SubFamily: Precision ADC (<=10MSPS); DatasheetVersion: SBAS139E; PackageVersion: 4073301-3/H, 10/2008; PackageReference: DBQ20; PackageDescription: 20-Pin Plastic Small Outline, Body 8.65 x 3.9 mm, Pitch 0.635 mm; Supplier 1: Digi-Key; Supplier Part Number 1: ADS7822UBG4-ND; Digital Supply(Max)(V): 5.25; Digital Supply(Min)(V): 2.7; Eco-Plan: Green (RoHS & no Sb/Br); Mounting Technology: Surface Mount; Code_JEDEC: MO-137; ComponentLink1Description: Manufacturer URL; ComponentLink1URL: http://www.ti.com/; ComponentLink2Description: Datasheet; ComponentLink2URL: http://www.ti.com/general/docs/lit/getliterature.tsp?genericPartNumber=ADS8344&fileType=pdf; ComponentLink3Description: Package Specification; ComponentLink3URL: http://www.ti.com/litv/pdf/mpds210a
footprint TI-DBQ20_N (SOP, 20-Leads, Body 8.65x3.9mm, Pitch 0.635mm, IPC Medium Density)
footprint TI-DBQ20_L (SOP, 20-Leads, Body 8.65x3.9mm, Pitch 0.635mm, IPC High Density)
footprint TI-DBQ20_M (SOP, 20-Leads, Body 8.65x3.9mm, Pitch 0.635mm, IPC Low Density)
pins: 1 CH0 (in) "Analog Input Channel 0", 2 CH1 (in) "Analog Input Channel 1", 3 CH2 (in) "Analog Input Channel 2", 4 CH3 (in) "Analog Input Channel 3", 5 CH4 (in) "Analog Input Channel 4", 6 CH5 (in) "Analog Input Channel 5", 7 CH6 (in) "Analog Input Channel 6", 8 CH7 (in) "Analog Input Channel 7", 9 COM (in) "Ground reference for analog inputs. Sets zero code voltage in single-ended mode. Connect this pin to ground or ground reference point.", 10 ~{SHDN} (in) "Shutdown. When LOW, the device enters a very low-power shutdown mode.", 11 VREF (in) "Voltage Reference Input. See Electrical Characteristics Table for ranges.", 12 VCC+ (power) "Power Supply, 2.7V to 5V", 13 GND (power) "Ground", 14 GND (power) "Ground", 15 DOUT (hiz) "Serial Data Output. Data is shifted on the falling edge of DCLK. This output is high impedance when C\S\ is HIGH.", 16 BUSY (hiz) "Busy Output. Busy goes LOW when the DIN control bits are being read and also when the device is converting. The Output is high impedance when C\S\ is HIGH.", 17 DIN (in) "Serial Data Input. If C\S\ is LOW, data is latched on rising edge of DCLK.", 18 ~{CS} (in) "Chip Select Input. Active LOW. Data will not be clocked into DIN unless C\S\ is LOW. When C\S\ is HIGH, DOUT is high impedance.", 19 DCLK (in) "External Clock Input. The clock speed determines the conversion rate by the equation fDCLK = 24 • fSAMPLE.", 20 VCC+ (power) "Power Supply"

## ADS8344EB
designator U?
16-Bit, 8-Channel Serial Output Sampling ADC, -40 to 85 degC, 20-pin SOP (DBQ20), Green (RoHS & no Sb/Br); Manufacturer: Texas Instruments; PartNumber: ADS8344EB; # Input Channels: 8; Analog Voltage AV/DD(Max)(V): 5.25; Analog Voltage AV/DD(Min)(V): 2.7; Architecture: SAR; INL(Max)(+/-LSB): 6; Interface: Serial SPI; Resolution(Bits): 16; Sample Rate (max)(SPS): 100k; SFDR(dB): 92; SINAD(dB): 86; SubFamily: Precision ADC (<=10MSPS); DatasheetVersion: SBAS139E; PackageVersion: 4073301-3/H, 10/2008; PackageReference: DBQ20; PackageDescription: 20-Pin Plastic Small Outline, Body 8.65 x 3.9 mm, Pitch 0.635 mm; Supplier 1: Digi-Key; Supplier Part Number 1: ADS7822UC-ND; Digital Supply(Max)(V): 5.25; Digital Supply(Min)(V): 2.7; Eco-Plan: Green (RoHS & no Sb/Br); Mounting Technology: Surface Mount; Code_JEDEC: MO-137; ComponentLink1Description: Manufacturer URL; ComponentLink1URL: http://www.ti.com/; ComponentLink2Description: Datasheet; ComponentLink2URL: http://www.ti.com/general/docs/lit/getliterature.tsp?genericPartNumber=ADS8344&fileType=pdf; ComponentLink3Description: Package Specification; ComponentLink3URL: http://www.ti.com/litv/pdf/mpds210a
footprint TI-DBQ20_N (SOP, 20-Leads, Body 8.65x3.9mm, Pitch 0.635mm, IPC Medium Density)
footprint TI-DBQ20_L (SOP, 20-Leads, Body 8.65x3.9mm, Pitch 0.635mm, IPC High Density)
footprint TI-DBQ20_M (SOP, 20-Leads, Body 8.65x3.9mm, Pitch 0.635mm, IPC Low Density)
pins: 1 CH0 (in) "Analog Input Channel 0", 2 CH1 (in) "Analog Input Channel 1", 3 CH2 (in) "Analog Input Channel 2", 4 CH3 (in) "Analog Input Channel 3", 5 CH4 (in) "Analog Input Channel 4", 6 CH5 (in) "Analog Input Channel 5", 7 CH6 (in) "Analog Input Channel 6", 8 CH7 (in) "Analog Input Channel 7", 9 COM (in) "Ground reference for analog inputs. Sets zero code voltage in single-ended mode. Connect this pin to ground or ground reference point.", 10 ~{SHDN} (in) "Shutdown. When LOW, the device enters a very low-power shutdown mode.", 11 VREF (in) "Voltage Reference Input. See Electrical Characteristics Table for ranges.", 12 VCC+ (power) "Power Supply, 2.7V to 5V", 13 GND (power) "Ground", 14 GND (power) "Ground", 15 DOUT (hiz) "Serial Data Output. Data is shifted on the falling edge of DCLK. This output is high impedance when C\S\ is HIGH.", 16 BUSY (hiz) "Busy Output. Busy goes LOW when the DIN control bits are being read and also when the device is converting. The Output is high impedance when C\S\ is HIGH.", 17 DIN (in) "Serial Data Input. If C\S\ is LOW, data is latched on rising edge of DCLK.", 18 ~{CS} (in) "Chip Select Input. Active LOW. Data will not be clocked into DIN unless C\S\ is LOW. When C\S\ is HIGH, DOUT is high impedance.", 19 DCLK (in) "External Clock Input. The clock speed determines the conversion rate by the equation fDCLK = 24 • fSAMPLE.", 20 VCC+ (power) "Power Supply"

## ADS8344EB/2K5
designator U?
16-Bit, 8-Channel Serial Output Sampling ADC, -40 to 85 degC, 20-pin SOP (DBQ20), Green (RoHS & no Sb/Br); Manufacturer: Texas Instruments; PartNumber: ADS8344EB/2K5; # Input Channels: 8; Analog Voltage AV/DD(Max)(V): 5.25; Analog Voltage AV/DD(Min)(V): 2.7; Architecture: SAR; INL(Max)(+/-LSB): 6; Interface: Serial SPI; Resolution(Bits): 16; Sample Rate (max)(SPS): 100k; SFDR(dB): 92; SINAD(dB): 86; SubFamily: Precision ADC (<=10MSPS); DatasheetVersion: SBAS139E; PackageVersion: 4073301-3/H, 10/2008; PackageReference: DBQ20; PackageDescription: 20-Pin Plastic Small Outline, Body 8.65 x 3.9 mm, Pitch 0.635 mm; Supplier 1: Digi-Key; Supplier Part Number 1: ADS7822UC/2K5-ND; Digital Supply(Max)(V): 5.25; Digital Supply(Min)(V): 2.7; Eco-Plan: Green (RoHS & no Sb/Br); Mounting Technology: Surface Mount; Code_JEDEC: MO-137; ComponentLink1Description: Manufacturer URL; ComponentLink1URL: http://www.ti.com/; ComponentLink2Description: Datasheet; ComponentLink2URL: http://www.ti.com/general/docs/lit/getliterature.tsp?genericPartNumber=ADS8344&fileType=pdf; ComponentLink3Description: Package Specification; ComponentLink3URL: http://www.ti.com/litv/pdf/mpds210a
footprint TI-DBQ20_N (SOP, 20-Leads, Body 8.65x3.9mm, Pitch 0.635mm, IPC Medium Density)
footprint TI-DBQ20_L (SOP, 20-Leads, Body 8.65x3.9mm, Pitch 0.635mm, IPC High Density)
footprint TI-DBQ20_M (SOP, 20-Leads, Body 8.65x3.9mm, Pitch 0.635mm, IPC Low Density)
pins: 1 CH0 (in) "Analog Input Channel 0", 2 CH1 (in) "Analog Input Channel 1", 3 CH2 (in) "Analog Input Channel 2", 4 CH3 (in) "Analog Input Channel 3", 5 CH4 (in) "Analog Input Channel 4", 6 CH5 (in) "Analog Input Channel 5", 7 CH6 (in) "Analog Input Channel 6", 8 CH7 (in) "Analog Input Channel 7", 9 COM (in) "Ground reference for analog inputs. Sets zero code voltage in single-ended mode. Connect this pin to ground or ground reference point.", 10 ~{SHDN} (in) "Shutdown. When LOW, the device enters a very low-power shutdown mode.", 11 VREF (in) "Voltage Reference Input. See Electrical Characteristics Table for ranges.", 12 VCC+ (power) "Power Supply, 2.7V to 5V", 13 GND (power) "Ground", 14 GND (power) "Ground", 15 DOUT (hiz) "Serial Data Output. Data is shifted on the falling edge of DCLK. This output is high impedance when C\S\ is HIGH.", 16 BUSY (hiz) "Busy Output. Busy goes LOW when the DIN control bits are being read and also when the device is converting. The Output is high impedance when C\S\ is HIGH.", 17 DIN (in) "Serial Data Input. If C\S\ is LOW, data is latched on rising edge of DCLK.", 18 ~{CS} (in) "Chip Select Input. Active LOW. Data will not be clocked into DIN unless C\S\ is LOW. When C\S\ is HIGH, DOUT is high impedance.", 19 DCLK (in) "External Clock Input. The clock speed determines the conversion rate by the equation fDCLK = 24 • fSAMPLE.", 20 VCC+ (power) "Power Supply"

## ADS8344EB/2K5G4
designator U?
16-Bit, 8-Channel Serial Output Sampling ADC, -40 to 85 degC, 20-pin SOP (DBQ20), Green (RoHS & no Sb/Br); Manufacturer: Texas Instruments; PartNumber: ADS8344EB/2K5G4; # Input Channels: 8; Analog Voltage AV/DD(Max)(V): 5.25; Analog Voltage AV/DD(Min)(V): 2.7; Architecture: SAR; INL(Max)(+/-LSB): 6; Interface: Serial SPI; Resolution(Bits): 16; Sample Rate (max)(SPS): 100k; SFDR(dB): 92; SINAD(dB): 86; SubFamily: Precision ADC (<=10MSPS); DatasheetVersion: SBAS139E; PackageVersion: 4073301-3/H, 10/2008; PackageReference: DBQ20; PackageDescription: 20-Pin Plastic Small Outline, Body 8.65 x 3.9 mm, Pitch 0.635 mm; Supplier 1: Digi-Key; Supplier Part Number 1: ADS7822UC/2K5G4-ND; Digital Supply(Max)(V): 5.25; Digital Supply(Min)(V): 2.7; Eco-Plan: Green (RoHS & no Sb/Br); Mounting Technology: Surface Mount; Code_JEDEC: MO-137; ComponentLink1Description: Manufacturer URL; ComponentLink1URL: http://www.ti.com/; ComponentLink2Description: Datasheet; ComponentLink2URL: http://www.ti.com/general/docs/lit/getliterature.tsp?genericPartNumber=ADS8344&fileType=pdf; ComponentLink3Description: Package Specification; ComponentLink3URL: http://www.ti.com/litv/pdf/mpds210a
footprint TI-DBQ20_N (SOP, 20-Leads, Body 8.65x3.9mm, Pitch 0.635mm, IPC Medium Density)
footprint TI-DBQ20_L (SOP, 20-Leads, Body 8.65x3.9mm, Pitch 0.635mm, IPC High Density)
footprint TI-DBQ20_M (SOP, 20-Leads, Body 8.65x3.9mm, Pitch 0.635mm, IPC Low Density)
pins: 1 CH0 (in) "Analog Input Channel 0", 2 CH1 (in) "Analog Input Channel 1", 3 CH2 (in) "Analog Input Channel 2", 4 CH3 (in) "Analog Input Channel 3", 5 CH4 (in) "Analog Input Channel 4", 6 CH5 (in) "Analog Input Channel 5", 7 CH6 (in) "Analog Input Channel 6", 8 CH7 (in) "Analog Input Channel 7", 9 COM (in) "Ground reference for analog inputs. Sets zero code voltage in single-ended mode. Connect this pin to ground or ground reference point.", 10 ~{SHDN} (in) "Shutdown. When LOW, the device enters a very low-power shutdown mode.", 11 VREF (in) "Voltage Reference Input. See Electrical Characteristics Table for ranges.", 12 VCC+ (power) "Power Supply, 2.7V to 5V", 13 GND (power) "Ground", 14 GND (power) "Ground", 15 DOUT (hiz) "Serial Data Output. Data is shifted on the falling edge of DCLK. This output is high impedance when C\S\ is HIGH.", 16 BUSY (hiz) "Busy Output. Busy goes LOW when the DIN control bits are being read and also when the device is converting. The Output is high impedance when C\S\ is HIGH.", 17 DIN (in) "Serial Data Input. If C\S\ is LOW, data is latched on rising edge of DCLK.", 18 ~{CS} (in) "Chip Select Input. Active LOW. Data will not be clocked into DIN unless C\S\ is LOW. When C\S\ is HIGH, DOUT is high impedance.", 19 DCLK (in) "External Clock Input. The clock speed determines the conversion rate by the equation fDCLK = 24 • fSAMPLE.", 20 VCC+ (power) "Power Supply"